# Altium footprint library MicroUSB.PcbLib: 1 footprints
Each footprint in its own frame and in the unit in brackets; x right, y up, seen from the top. Pads: shape width x height; smd on the part's side, far side on the other; paste and mask are expansions set on the pad; w line width, h text height; cw(c..) or ccw(c..) is an arc to the next point about the centre after c.
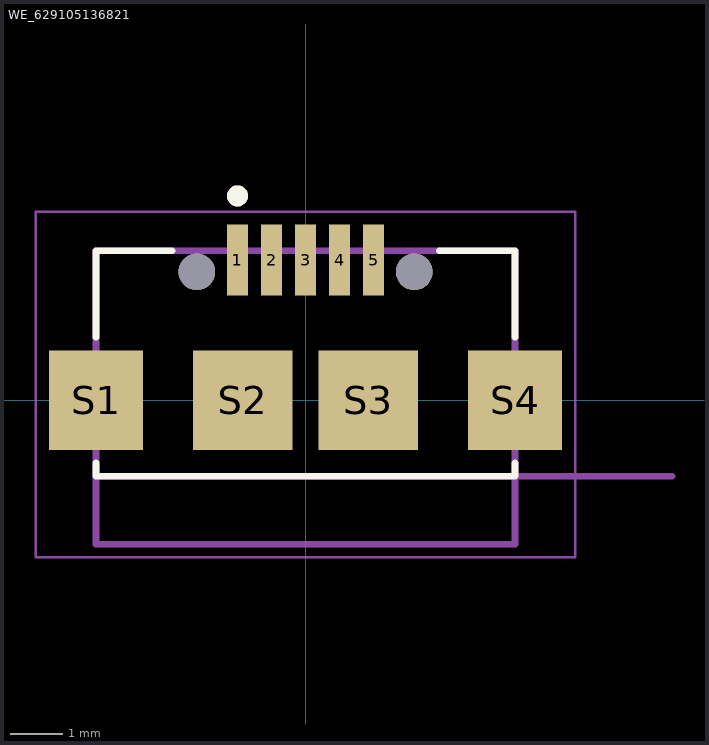
[diagram p0: the footprint, top view; thin cyan lines are the x and y axes]

## WE_629105136821 [mm]
pads (11):
  rect 0.4x1.35 smd: 1(-1.3,2.675) 2(-0.65,2.675) 3(0,2.675) 4(0.65,2.675) 5(1.3,2.675)
  rect 1.8x1.9 smd: S1(-4,0) S4(4,0)
  rect 1.9x1.9 smd: S2(-1.2,0) S3(1.2,0)
  round 0.7 hole 0.7 unplated: ""(-2.075,2.45) ""(2.075,2.45)
Top Overlay:
  circle w0.2: c-1.3,3.9 r0.1
  lines w0.127: -4,-1.2 -4,-1.45 4,-1.45 4,-1.2 ; -4,1.2 -4,2.85 -2.55,2.85 ; 2.55,2.85 4,2.85 4,1.2
Mechanical 13:
  circle w0.2: c-1.3,3.9 r0.1
  lines w0.127: 7,-1.45 -4,-1.45 ; -4,-1.45 -4,2.85 4,2.85 4,-2.75 -4,-2.75 -4,-1.45
  text "CONNECTOR EDGE" at -1.605,-2.61 h0.25
  text "PCB EDGE" at 5.14,-1.34 h0.25
Mechanical 15:
  lines w0.05: -5.15,-3 5.15,-3 5.15,3.6 -5.15,3.6 -5.15,-3
3D body "629105136821_01.SLDPRT": height 2.73, standoff -0.22, extent -4,-2.773 4,2.95